# EAGLE library part K561LS2 (library _mtvl_ic.soviet)
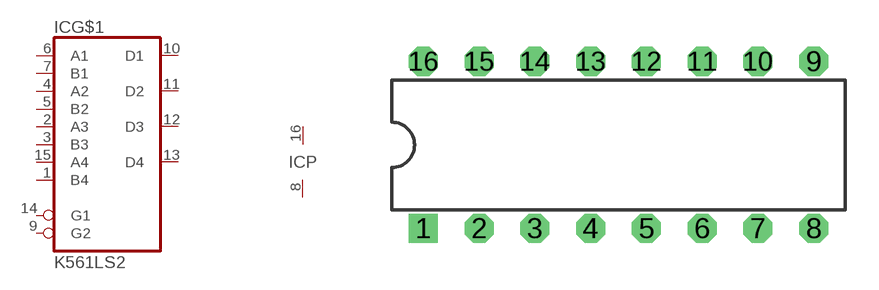
[diagram p9: symbol with the pads of 238.16.1; footprint 238.16.1]

Designator prefix IC; gates G$1=K561LS2 P=PWR+-

## K561LS2  [238.16.1]
1  G$1:B4  in
2  G$1:A3  in
3  G$1:B3  in
4  G$1:A2  in
5  G$1:B2  in
6  G$1:A1  in
7  G$1:B1  in
8  P:V-  pwr
9  G$1:G2  in
10  G$1:D1  out
11  G$1:D2  out
12  G$1:D3  out
13  G$1:D4  out
14  G$1:G1  in
15  G$1:A4  in
16  P:V+  pwr

## Footprint 238.16.1 (pad centres in mm)
Dual In Line Package
drill 0.8 square: 1 -8.75,-3.75
drill 0.8 octagon: 2 -6.25,-3.75; 3 -3.75,-3.75; 4 -1.25,-3.75; 5 1.25,-3.75; 6 3.75,-3.75; 7 6.25,-3.75; 8 8.75,-3.75; 9 8.75,3.75; 10 6.25,3.75; 11 3.75,3.75; 12 1.25,3.75; 13 -1.25,3.75; 14 -3.75,3.75; 15 -6.25,3.75; 16 -8.75,3.75